# EAGLE library part 74LVC595A (library ic-NXP)
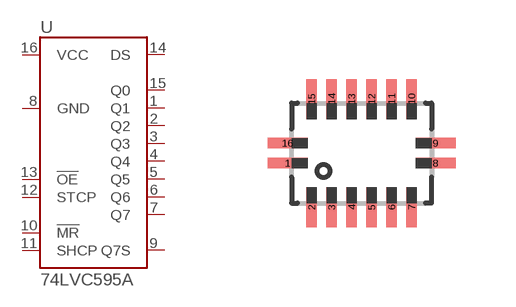
[diagram p2: symbol with the pads of DHVQFN16-NOPAD; footprint DHVQFN16-NOPAD]

Designator prefix U

## 74LVC595ABQ  [DHVQFN16-NOPAD]
1  Q1
2  Q2
3  Q3
4  Q4
5  Q5
6  Q6
7  Q7
8  GND
9  Q7S
10  !MR
11  SHCP
12  STCP
13  !OE
14  DS
15  Q0
16  VCC

## Footprint DHVQFN16-NOPAD (pad centres in mm)
smd 1 x 0.27: 1 -1.85,-0.25; 8 1.85,-0.25; 9 1.85,0.25; 16 -1.85,0.25
smd 0.27 x 1: 2 -1.25,-1.35; 3 -0.75,-1.35; 4 -0.25,-1.35; 5 0.25,-1.35; 6 0.75,-1.35; 7 1.25,-1.35; 10 1.25,1.35; 11 0.75,1.35; 12 0.25,1.35; 13 -0.25,1.35; 14 -0.75,1.35; 15 -1.25,1.35